# Altium footprint library RM96.PcbLib: 1 footprints
Each footprint in its own frame and in the unit in brackets; x right, y up, seen from the top. Pads: shape width x height; smd on the part's side, far side on the other; paste and mask are expansions set on the pad; w line width, h text height; cw(c..) or ccw(c..) is an arc to the next point about the centre after c.
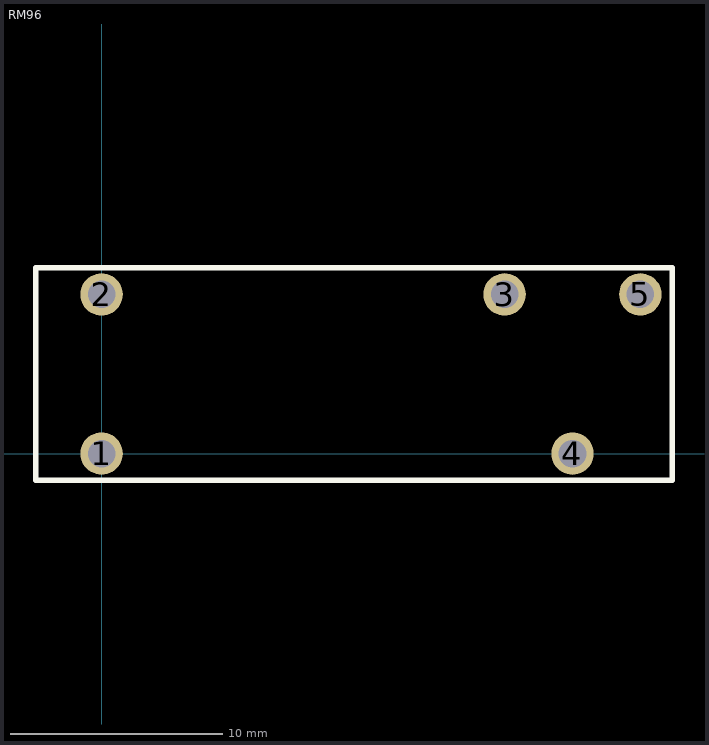
[diagram p0: the footprint, top view; thin cyan lines are the x and y axes]

## RM96 [mm]
height 16.2
pads (5):
  round 2 hole 1.3: 1(0,0) 2(0,7.5) 3(19,7.5) 4(22.2,0) 5(25.4,7.5)
Top Overlay:
  lines w0.254: -3.1,-1.25 26.9,-1.25 26.9,8.75 -3.1,8.75 -3.1,-1.25
3D body: height 16.2, standoff 0, extent -3.227,-1.377 27.027,8.877